# Altium footprint library RPi_connector_board.PcbLib: 4 footprints
Each footprint in its own frame and in the unit in brackets; x right, y up, seen from the top. Pads: shape width x height; smd on the part's side, far side on the other; paste and mask are expansions set on the pad; w line width, h text height; cw(c..) or ccw(c..) is an arc to the next point about the centre after c.
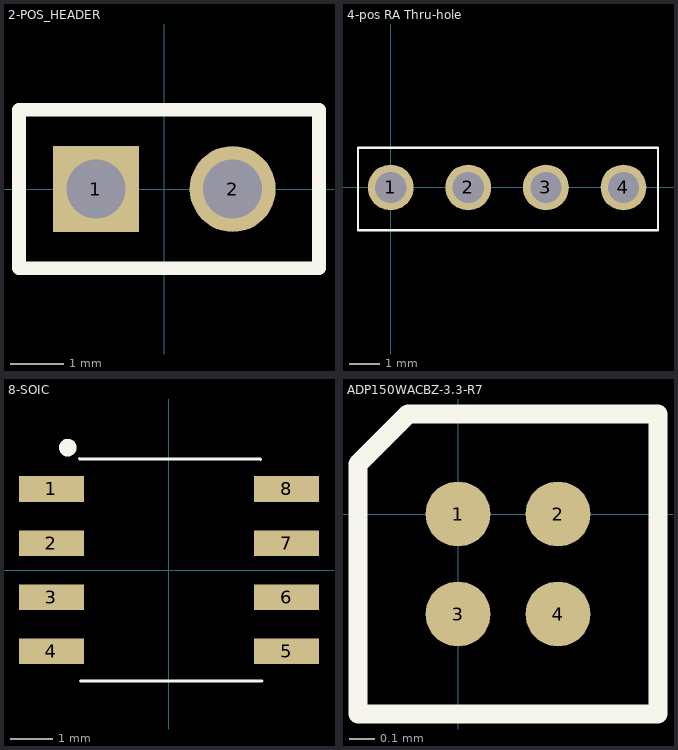
[diagram p0: the footprints below, top view; thin cyan lines are the x and y axes]

## 2-POS_HEADER [mm] "2 pin header 2.54 mm pitch"
pads (2):
  rect 1.6x1.6 hole 1.1: 1(-1.27,0)
  round 1.6 hole 1.1: 2(1.27,0)
Top Overlay:
  lines w0.254: -2.7,-1.475 2.875,-1.475 2.875,1.475 -2.7,1.475 -2.7,-1.475
3D body "pin_header_aw140-eg-g02d.stp": height 8.21, standoff -2.99, extent -2.465,-1.246 2.615,1.253

## 4-pos RA Thru-hole [mm] "Earpiece differential signalling connector"
pads (4):
  round 1.5 hole 1.02: 1(0,0) 2(2.54,0) 3(5.08,0) 4(7.62,0)
Top Overlay:
  lines w0.078: -1.07,-1.4 8.75,-1.4 8.75,1.3 -1.07,1.3 -1.07,-1.4

## 8-SOIC [mm]
pads (8):
  rect 1.52x0.6 smd: 1(-2.76,1.905) 2(-2.76,0.635) 3(-2.76,-0.635) 4(-2.76,-1.905) 5(2.76,-1.905) 6(2.76,-0.635) 7(2.76,0.635) 8(2.76,1.905)
Top Overlay:
  circle w0.254: c-2.375,2.875 r0.079
  lines w0.076: -2.1,2.615 2.15,2.6 ; -2.075,-2.6 2.175,-2.6
3D body "SOIC-8_ONS.step": height 1.76, standoff 0, extent -3.099,-2.502 3.099,2.502

## ADP150WACBZ-3.3-R7 [mm]
pads (4):
  round 0.26 smd: 1(0,0) 2(0.4,0) 3(0,-0.4) 4(0.4,-0.4)
Top Overlay:
  lines w0.076: -0.4,-0.8 -0.4,0.2 -0.2,0.4 0.8,0.4 0.8,-0.8 -0.4,-0.8
3D body "CB_4_3_ADI.step": height 0.66, standoff 0, extent -0.206,-0.606 0.606,0.206